# Altium schematic symbol library SST-10-FR-B130-J730.SchLib: 1 symbol
Pins are listed as number, name and electrical type; pins without a type are passive.

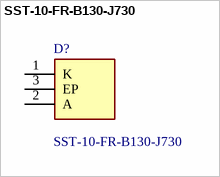
[diagram p0: symbol SST-10-FR-B130-J730]

## SST-10-FR-B130-J730
designator D?
High Power LEDs - Single Color 730nm FAR RED 1mm 130 degree lens; Manufacturer_Name: Luminus Devices Inc.; Geometry.Height: 2.03mm; Manufacturer_Part_Number: SST-10-FR-B130-J730; Mouser Part Number: *; Mouser Price/Stock: *; Arrow Part Number: *; Arrow Price/Stock: *; Datasheet Link: https://download.luminus.com/datasheets/Luminus_SST-10-FR_Datasheet.pdf
footprint SST10FRB130J730
pins: 1 K, 2 A, 3 EP